# EAGLE library part ATMEGA32U4-AU (library Sparky)
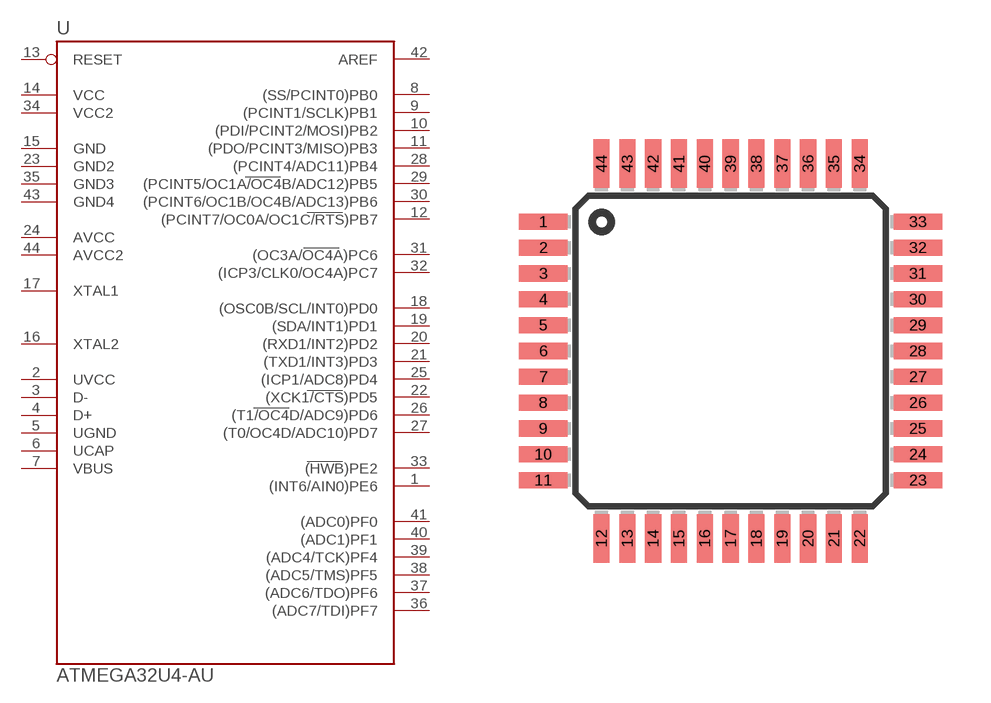
[diagram p3: symbol with the pads of TQFP44; footprint TQFP44]

Designator prefix -

## ATMEGA32U4-AU  [TQFP44]
1  (INT6/AIN0)PE6
2  UVCC
3  D-
4  D+
5  UGND
6  UCAP
7  VBUS
8  (SS/PCINT0)PB0
9  (PCINT1/SCLK)PB1
10  (PDI/PCINT2/MOSI)PB2
11  (PDO/PCINT3/MISO)PB3
12  (PCINT7/OC0A/OC1C/RTS)PB7
13  RESET
14  VCC
15  GND
16  XTAL2
17  XTAL1
18  (OSC0B/SCL/INT0)PD0
19  (SDA/INT1)PD1
20  (RXD1/INT2)PD2
21  (TXD1/INT3)PD3
22  (XCK1/CTS)PD5
23  GND2
24  AVCC
25  (ICP1/ADC8)PD4
26  (T1/OC4D/ADC9)PD6
27  (T0/OC4D/ADC10)PD7
28  (PCINT4/ADC11)PB4
29  (PCINT5/OC1A/OC4B/ADC12)PB5
30  (PCINT6/OC1B/OC4B/ADC13)PB6
31  (OC3A/OC4A)PC6
32  (ICP3/CLK0/OC4A)PC7
33  (HWB)PE2
34  VCC2
35  GND3
36  (ADC7/TDI)PF7
37  (ADC6/TDO)PF6
38  (ADC5/TMS)PF5
39  (ADC4/TCK)PF4
40  (ADC1)PF1
41  (ADC0)PF0
42  AREF
43  GND4
44  AVCC2

## Footprint TQFP44 (pad centres in mm)
Thin Plasic Quad Flat Package
smd 1.5 x 0.5: 1 -5.8,4; 2 -5.8,3.2; 3 -5.8,2.4; 4 -5.8,1.6; 5 -5.8,0.8; 6 -5.8,0; 7 -5.8,-0.8; 8 -5.8,-1.6; 9 -5.8,-2.4; 10 -5.8,-3.2; 11 -5.8,-4; 23 5.8,-4; 24 5.8,-3.2; 25 5.8,-2.4; 26 5.8,-1.6; 27 5.8,-0.8; 28 5.8,0; 29 5.8,0.8; 30 5.8,1.6; 31 5.8,2.4; 32 5.8,3.2; 33 5.8,4
smd 0.5 x 1.5: 12 -4,-5.8; 13 -3.2,-5.8; 14 -2.4,-5.8; 15 -1.6,-5.8; 16 -0.8,-5.8; 17 0,-5.8; 18 0.8,-5.8; 19 1.6,-5.8; 20 2.4,-5.8; 21 3.2,-5.8; 22 4,-5.8; 34 4,5.8; 35 3.2,5.8; 36 2.4,5.8; 37 1.6,5.8; 38 0.8,5.8; 39 0,5.8; 40 -0.8,5.8; 41 -1.6,5.8; 42 -2.4,5.8; 43 -3.2,5.8; 44 -4,5.8